# Altium footprint library WE WR-COM 61400416121.PcbLib: 1 footprints
Each footprint in its own frame and in the unit in brackets; x right, y up, seen from the top. Pads: shape width x height; smd on the part's side, far side on the other; paste and mask are expansions set on the pad; w line width, h text height; cw(c..) or ccw(c..) is an arc to the next point about the centre after c.
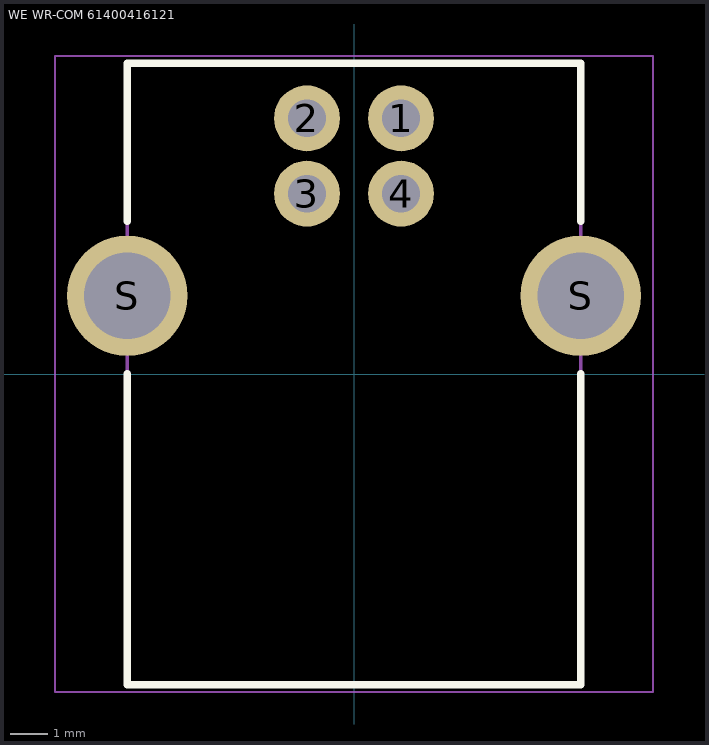
[diagram p0: the footprint, top view; thin cyan lines are the x and y axes]

## WE WR-COM 61400416121 [mm] "USB 2.0 Type B Receptacle"
height 7
pads (6):
  round 1.75 hole 1: 1(1.25,6.79) 2(-1.25,6.79) 3(-1.25,4.79) 4(1.25,4.79)
  round 3.2 hole 2.3: S(-6.02,2.08) S(6.02,2.08)
Top Overlay:
  lines w0.2: -6.02,0 -6.02,-8.25 6.02,-8.25 6.02,0 ; -6.02,4.06 -6.02,8.25 6.02,8.25 6.02,4.06
Top Assembly:
  lines w0.1: -6.02,-8.25 -6.02,8.25 6.02,8.25 6.02,-8.25 -6.02,-8.25
Top Courtyard:
  lines w0.05: -7.945,-8.45 -7.945,8.45 7.945,8.45 7.945,-8.45 -7.945,-8.45
Top Designator:
  text ".Designator" at -7.498,-0.5 h1.5
3D body "61400416121.stp": height 11.15, standoff -3.71, extent -7.484,-8.25 7.484,8.25